# EAGLE library part CHIPKIT_UNO32 (library ChipKit_Uno32)
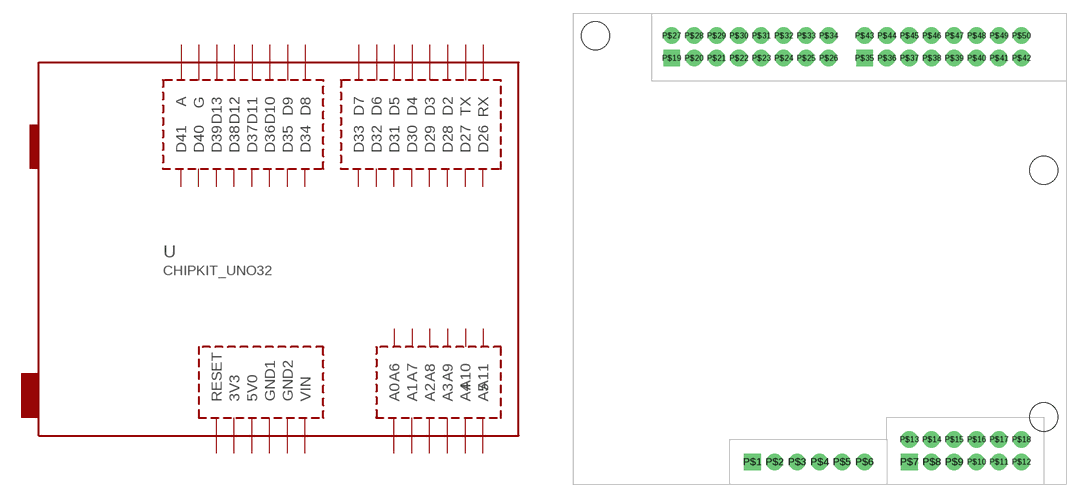
[diagram p0: symbol with the pads of CHIPKIT_UNO32_BACKPACK; footprint CHIPKIT_UNO32_BACKPACK]

Designator prefix -

## CHIPKIT_UNO32CHIPKIT_UNO32_SHIELD  [CHIPKIT_UNO32_BACKPACK]
P$1  RESET
P$2  3V3
P$3  5V0
P$4  GND1
P$5  GND2
P$6  VIN
P$7  A0
P$8  A1
P$9  A2
P$10  A3
P$11  A4
P$12  A5
P$13  A6
P$14  A7
P$15  A8
P$16  A9
P$17  A10
P$18  A11
P$19  D41
P$20  D40
P$21  D39
P$22  D38
P$23  D37
P$24  D36
P$25  D35
P$26  D34
P$27  A
P$28  G
P$29  D13
P$30  D12
P$31  D11
P$32  D10
P$33  D9
P$34  D8
P$35  D33
P$36  D32
P$37  D31
P$38  D30
P$39  D29
P$40  D28
P$41  D27
P$42  D26
P$43  D7
P$44  D6
P$45  D5
P$46  D4
P$47  D3
P$48  D2
P$49  TX
P$50  RX

## Footprint CHIPKIT_UNO32_BACKPACK (pad centres in mm)
drill 1.016 pad 1.88 square: P$1 33.02,2.54; P$7 50.8,2.54; P$19 23.876,48.26; P$35 45.72,48.26
drill 1.016 pad 1.88: P$2 35.56,2.54; P$3 38.1,2.54; P$4 40.64,2.54; P$5 43.18,2.54; P$6 45.72,2.54; P$8 53.34,2.54; P$9 55.88,2.54; P$10 58.42,2.54; P$11 60.96,2.54; P$12 63.5,2.54; P$13 50.8,5.08; P$14 53.34,5.08; P$15 55.88,5.08; P$16 58.42,5.08; P$17 60.96,5.08; P$18 63.5,5.08; P$20 26.416,48.26; P$21 28.956,48.26; P$22 31.496,48.26; P$23 34.036,48.26; P$24 36.576,48.26; P$25 39.116,48.26; P$26 41.656,48.26; P$27 23.876,50.8; P$28 26.416,50.8; P$29 28.956,50.8; P$30 31.496,50.8; P$31 34.036,50.8; P$32 36.576,50.8; P$33 39.116,50.8; P$34 41.656,50.8; P$36 48.26,48.26; P$37 50.8,48.26; P$38 53.34,48.26; P$39 55.88,48.26; P$40 58.42,48.26; P$41 60.96,48.26; P$42 63.5,48.26; P$43 45.72,50.8; P$44 48.26,50.8; P$45 50.8,50.8; P$46 53.34,50.8; P$47 55.88,50.8; P$48 58.42,50.8; P$49 60.96,50.8; P$50 63.5,50.8
hole 3.2 at 15.24,50.8
hole 3.2 at 66.04,35.56
hole 3.2 at 66.04,7.62